# Altium footprint library XHCLB_22.11.30.PcbLib: 90 footprints (part 6 of 6)
Each footprint in its own frame and in the unit in brackets; x right, y up, seen from the top. Pads: shape width x height; smd on the part's side, far side on the other; paste and mask are expansions set on the pad; w line width, h text height; cw(c..) or ccw(c..) is an arc to the next point about the centre after c.
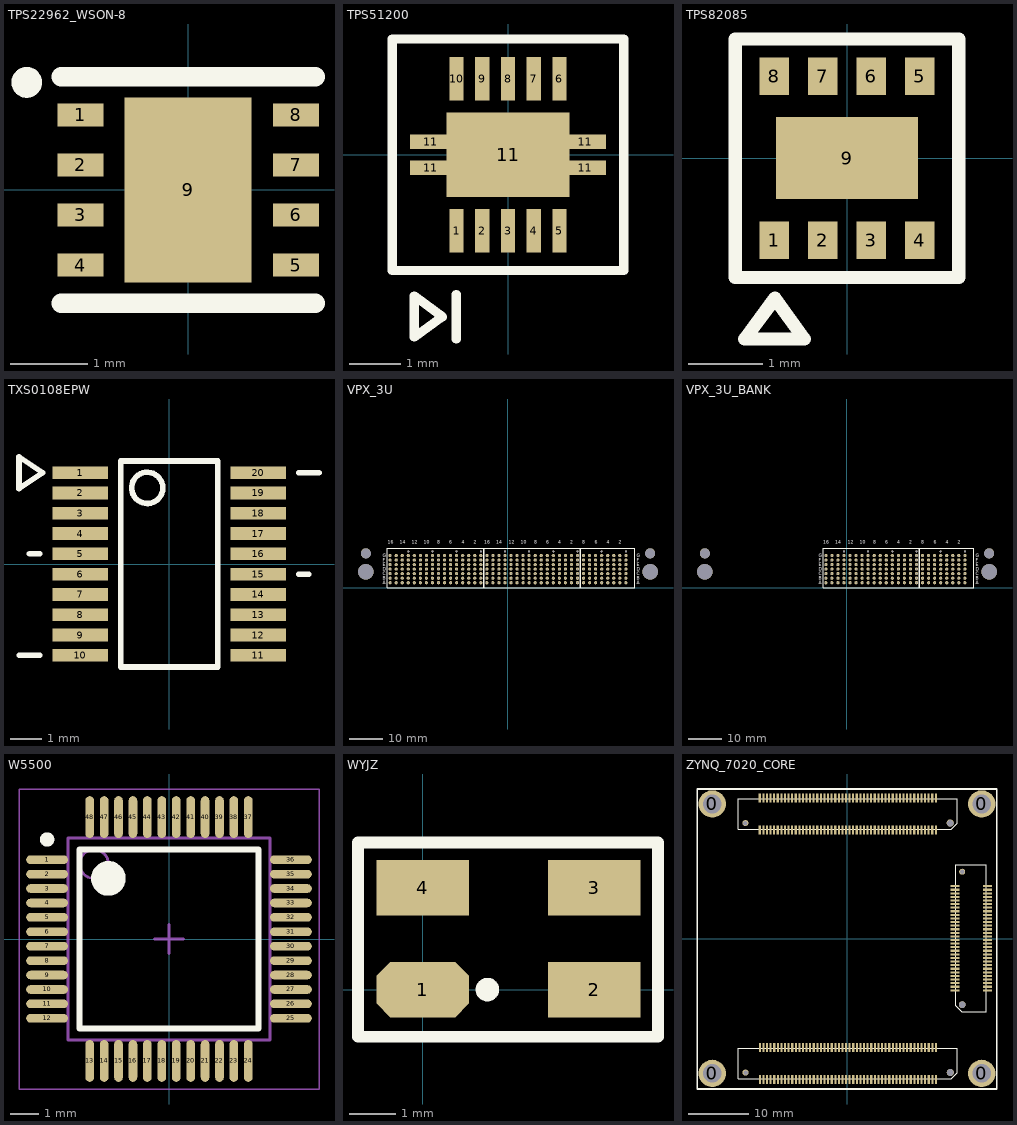
[diagram p5: the footprints below, top view; thin cyan lines are the x and y axes]

## TPS22962_WSON-8 [mm]
pads (9):
  rect 0.6x0.3 smd: 1(-1.4,0.975) 2(-1.4,0.325) 3(-1.4,-0.325) 4(-1.4,-0.975) 5(1.4,-0.975) 6(1.4,-0.325) 7(1.4,0.325) 8(1.4,0.975)
  rect 1.65x2.4 smd: 9(0,0)
Top Overlay:
  lines w0.2: -1.999,1.397 cw(c-2.099,1.398) -1.999,1.4
  lines w0.254: -1.651,-1.473 1.649,-1.473 ; -1.649,1.473 1.651,1.473

## TPS51200 [mm]
pads (15):
  rect 0.279x0.85 smd: 1(-1,-1.475) 2(-0.5,-1.475) 3(0,-1.475) 4(0.5,-1.475) 5(1,-1.475) 6(1,1.475) 7(0.5,1.475) 8(0,1.475) 9(-0.5,1.475) 10(-1,1.475)
  rect 0.8x0.28 smd: 11(-1.5,-0.25) 11(-1.5,0.25) 11(1.5,-0.25) 11(1.5,0.25)
  rect 2.4x1.65 smd: 11(0,0)
Top Overlay:
  lines w0.178: -1.007,-3.58 -1.007,-2.717 ; -2.25,-2.25 -2.25,2.25 2.25,2.25 2.25,-2.25 -2.25,-2.25 ; -1.821,-3.543 -1.821,-2.743 -1.275,-3.151 -1.821,-3.543

## TPS82085 [mm]
pads (9):
  rect 0.4x0.5 smd: 1(-0.975,-1.1) 2(-0.325,-1.1) 3(0.325,-1.1) 4(0.975,-1.1) 5(0.975,1.1) 6(0.325,1.1) 7(-0.325,1.1) 8(-0.975,1.1)
  rect 1.9x1.1 smd: 9(0,0)
Top Overlay:
  lines w0.178: -1.5,-1.6 -1.5,1.6 1.5,1.6 1.5,-1.6 -1.5,-1.6 ; -1.373,-2.426 -0.965,-1.88 -0.573,-2.426 -1.373,-2.426

## TXS0108EPW [mm]
pads (20):
  rect 1.778x0.406 smd: 1(-2.85,2.925) 2(-2.85,2.275) 3(-2.85,1.625) 4(-2.85,0.975) 5(-2.85,0.325) 6(-2.85,-0.325) 7(-2.85,-0.975) 8(-2.85,-1.625) 9(-2.85,-2.275) 10(-2.85,-2.925) 11(2.85,-2.925) 12(2.85,-2.275) 13(2.85,-1.625) 14(2.85,-0.975) 15(2.85,-0.325) 16(2.85,0.325) 17(2.85,0.975) 18(2.85,1.625) 19(2.85,2.275) 20(2.85,2.925)
Top Overlay:
  circle w0.178: c-0.703,2.438 r0.5
  lines w0.178: -4.8,-2.925 -4.15,-2.925 ; -4.475,0.325 -4.15,0.325 ; 4.15,-0.325 4.475,-0.325 ; 4.15,2.925 4.8,2.925 ; -4.812,2.417 -4.812,3.433 -4.05,2.925 -4.812,2.417 ; -1.55,-3.3 1.55,-3.3 1.55,3.3 -1.55,3.3 -1.55,-3.3

## VPX_3U [mm]
pads (294):
  round 0.95 hole 0.45: P0_A1(35.1,1.5) P0_A2(33.3,1.5) P0_A3(31.5,1.5) P0_A4(29.7,1.5) P0_A5(27.9,1.5) P0_A6(26.1,1.5) P0_A7(24.3,1.5) P0_A8(22.5,1.5) P0_B1(35.1,2.85) P0_B2(33.3,2.85) P0_B3(31.5,2.85) P0_B4(29.7,2.85) P0_B5(27.9,2.85) P0_B6(26.1,2.85) P0_B7(24.3,2.85) P0_B8(22.5,2.85) P0_C1(35.1,4.2) P0_C2(33.3,4.2) P0_C3(31.5,4.2) P0_C4(29.7,4.2) P0_C5(27.9,4.2) P0_C6(26.1,4.2) P0_C7(24.3,4.2) P0_C8(22.5,4.2) P0_D1(35.1,5.55) P0_D2(33.3,5.55) P0_D3(31.5,5.55) P0_D4(29.7,5.55) P0_D5(27.9,5.55) P0_D6(26.1,5.55) P0_D7(24.3,5.55) P0_D8(22.5,5.55) P0_E1(35.1,6.9) P0_E2(33.3,6.9) P0_E3(31.5,6.9) P0_E4(29.7,6.9) P0_E5(27.9,6.9) P0_E6(26.1,6.9) P0_E7(24.3,6.9) P0_E8(22.5,6.9) P0_F1(35.1,8.25) P0_F2(33.3,8.25) P0_F3(31.5,8.25) P0_F4(29.7,8.25) P0_F5(27.9,8.25) P0_F6(26.1,8.25) P0_F7(24.3,8.25) P0_F8(22.5,8.25) P0_G1(35.1,9.6) P0_G2(33.3,9.6) P0_G3(31.5,9.6) P0_G4(29.7,9.6) P0_G5(27.9,9.6) P0_G6(26.1,9.6) P0_G7(24.3,9.6) P0_G8(22.5,9.6) P1_A1(20.7,1.5) P1_A2(18.9,1.5) P1_A3(17.1,1.5) P1_A4(15.3,1.5) P1_A5(13.5,1.5) P1_A6(11.7,1.5) P1_A7(9.9,1.5) P1_A8(8.1,1.5) P1_A9(6.3,1.5) P1_A10(4.5,1.5) P1_A11(2.7,1.5) P1_A12(0.9,1.5) P1_A13(-0.9,1.5) P1_A14(-2.7,1.5) P1_A15(-4.5,1.5) P1_A16(-6.3,1.5) P1_B1(20.7,2.85) P1_B2(18.9,2.85) P1_B3(17.1,2.85) P1_B4(15.3,2.85) P1_B5(13.5,2.85) P1_B6(11.7,2.85) P1_B7(9.9,2.85) P1_B8(8.1,2.85) P1_B9(6.3,2.85) P1_B10(4.5,2.85) P1_B11(2.7,2.85) P1_B12(0.9,2.85) P1_B13(-0.9,2.85) P1_B14(-2.7,2.85) P1_B15(-4.5,2.85) P1_B16(-6.3,2.85) P1_C1(20.7,4.2) P1_C2(18.9,4.2) P1_C3(17.1,4.2) P1_C4(15.3,4.2) P1_C5(13.5,4.2) P1_C6(11.7,4.2) P1_C7(9.9,4.2) P1_C8(8.1,4.2) P1_C9(6.3,4.2) P1_C10(4.5,4.2) P1_C11(2.7,4.2) P1_C12(0.9,4.2) P1_C13(-0.9,4.2) P1_C14(-2.7,4.2) P1_C15(-4.5,4.2) P1_C16(-6.3,4.2) P1_D1(20.7,5.55) P1_D2(18.9,5.55) P1_D3(17.1,5.55) P1_D4(15.3,5.55) P1_D5(13.5,5.55) P1_D6(11.7,5.55) P1_D7(9.9,5.55) P1_D8(8.1,5.55) P1_D9(6.3,5.55) P1_D10(4.5,5.55) P1_D11(2.7,5.55) P1_D12(0.9,5.55) P1_D13(-0.9,5.55) P1_D14(-2.7,5.55) P1_D15(-4.5,5.55) P1_D16(-6.3,5.55) P1_E1(20.7,6.9) P1_E2(18.9,6.9) P1_E3(17.1,6.9) P1_E4(15.3,6.9) P1_E5(13.5,6.9) P1_E6(11.7,6.9) P1_E7(9.9,6.9) P1_E8(8.1,6.9) P1_E9(6.3,6.9) P1_E10(4.5,6.9) P1_E11(2.7,6.9) P1_E12(0.9,6.9) P1_E13(-0.9,6.9) P1_E14(-2.7,6.9) P1_E15(-4.5,6.9) P1_E16(-6.3,6.9) P1_F1(20.7,8.25) P1_F2(18.9,8.25) P1_F3(17.1,8.25) P1_F4(15.3,8.25) P1_F5(13.5,8.25) P1_F6(11.7,8.25) P1_F7(9.9,8.25) P1_F8(8.1,8.25) P1_F9(6.3,8.25) P1_F10(4.5,8.25) P1_F11(2.7,8.25) P1_F12(0.9,8.25) P1_F13(-0.9,8.25) P1_F14(-2.7,8.25) P1_F15(-4.5,8.25) P1_F16(-6.3,8.25) P1_G1(20.7,9.6) P1_G2(18.9,9.6) P1_G3(17.1,9.6) P1_G4(15.3,9.6) P1_G5(13.5,9.6) P1_G6(11.7,9.6) P1_G7(9.9,9.6) P1_G8(8.1,9.6) P1_G9(6.3,9.6) P1_G10(4.5,9.6) P1_G11(2.7,9.6) P1_G12(0.9,9.6) P1_G13(-0.9,9.6) P1_G14(-2.7,9.6) P1_G15(-4.5,9.6) P1_G16(-6.3,9.6) P2_A1(-8.1,1.5) P2_A2(-9.9,1.5) P2_A3(-11.7,1.5) P2_A4(-13.5,1.5) P2_A5(-15.3,1.5) P2_A6(-17.1,1.5) P2_A7(-18.9,1.5) P2_A8(-20.7,1.5) P2_A9(-22.5,1.5) P2_A10(-24.3,1.5) P2_A11(-26.1,1.5) P2_A12(-27.9,1.5) P2_A13(-29.7,1.5) P2_A14(-31.5,1.5) P2_A15(-33.3,1.5) P2_A16(-35.1,1.5) P2_B1(-8.1,2.85) P2_B2(-9.9,2.85) P2_B3(-11.7,2.85) P2_B4(-13.5,2.85) P2_B5(-15.3,2.85) P2_B6(-17.1,2.85) P2_B7(-18.9,2.85) P2_B8(-20.7,2.85) P2_B9(-22.5,2.85) P2_B10(-24.3,2.85) P2_B11(-26.1,2.85) P2_B12(-27.9,2.85) P2_B13(-29.7,2.85) P2_B14(-31.5,2.85) P2_B15(-33.3,2.85) P2_B16(-35.1,2.85) P2_C1(-8.1,4.2) P2_C2(-9.9,4.2) P2_C3(-11.7,4.2) P2_C4(-13.5,4.2) P2_C5(-15.3,4.2) P2_C6(-17.1,4.2) P2_C7(-18.9,4.2) P2_C8(-20.7,4.2) P2_C9(-22.5,4.2) P2_C10(-24.3,4.2) P2_C11(-26.1,4.2) P2_C12(-27.9,4.2) P2_C13(-29.7,4.2) P2_C14(-31.5,4.2) P2_C15(-33.3,4.2) P2_C16(-35.1,4.2) P2_D1(-8.1,5.55) P2_D2(-9.9,5.55) P2_D3(-11.7,5.55) P2_D4(-13.5,5.55) P2_D5(-15.3,5.55) P2_D6(-17.1,5.55) P2_D7(-18.9,5.55) P2_D8(-20.7,5.55) P2_D9(-22.5,5.55) P2_D10(-24.3,5.55) P2_D11(-26.1,5.55) P2_D12(-27.9,5.55) P2_D13(-29.7,5.55) P2_D14(-31.5,5.55) P2_D15(-33.3,5.55) P2_D16(-35.1,5.55) P2_E1(-8.1,6.9) P2_E2(-9.9,6.9) P2_E3(-11.7,6.9) P2_E4(-13.5,6.9) P2_E5(-15.3,6.9) P2_E6(-17.1,6.9) P2_E7(-18.9,6.9) P2_E8(-20.7,6.9) P2_E9(-22.5,6.9) P2_E10(-24.3,6.9) P2_E11(-26.1,6.9) P2_E12(-27.9,6.9) P2_E13(-29.7,6.9) P2_E14(-31.5,6.9) P2_E15(-33.3,6.9) P2_E16(-35.1,6.9) P2_F1(-8.1,8.25) P2_F2(-9.9,8.25) P2_F3(-11.7,8.25) P2_F4(-13.5,8.25) P2_F5(-15.3,8.25) P2_F6(-17.1,8.25) P2_F7(-18.9,8.25) P2_F8(-20.7,8.25) P2_F9(-22.5,8.25) P2_F10(-24.3,8.25) P2_F11(-26.1,8.25) P2_F12(-27.9,8.25) P2_F13(-29.7,8.25) P2_F14(-31.5,8.25) P2_F15(-33.3,8.25) P2_F16(-35.1,8.25) P2_G1(-8.1,9.6) P2_G2(-9.9,9.6) P2_G3(-11.7,9.6) P2_G4(-13.5,9.6) P2_G5(-15.3,9.6) P2_G6(-17.1,9.6) P2_G7(-18.9,9.6) P2_G8(-20.7,9.6) P2_G9(-22.5,9.6) P2_G10(-24.3,9.6) P2_G11(-26.1,9.6) P2_G12(-27.9,9.6) P2_G13(-29.7,9.6) P2_G14(-31.5,9.6) P2_G15(-33.3,9.6) P2_G16(-35.1,9.6)
  round 4.65 hole 4.65: ""(-42.35,4.75) ""(42.35,4.75)
  round 3 hole 3: ""(-42.35,10.25) ""(42.35,10.25)
  round 0.6 hole 0.6: ""(-29.7,10.85) ""(-22.5,10.85) ""(-15.3,10.85) ""(-8.1,10.85) ""(-0.9,10.85) ""(6.3,10.85) ""(13.5,10.85) ""(20.7,10.85) ""(27.9,10.85) ""(35.1,10.85)
Top Overlay:
  lines w0.254: -35.94,0 -7.26,0 -7.26,11.81 -35.94,11.81 -35.94,0 ; -7.14,0 21.54,0 21.54,11.81 -7.14,11.81 -7.14,0 ; 21.66,0 37.74,0 37.74,11.81 21.66,11.81 21.66,0
  text "6" at -17.433,13.15 h1
  text "8" at -21.033,13.15 h1
  text "4" at -13.833,13.15 h1
  text "2" at -10.233,13.15 h1
  text "10" at -25.05,13.15 h1
  text "12" at -28.65,13.15 h1
  text "16" at -35.85,13.15 h1
  text "14" at -32.25,13.15 h1
  text "6" at 11.367,13.15 h1
  text "8" at 7.767,13.15 h1
  text "4" at 14.967,13.15 h1
  text "2" at 18.567,13.15 h1
  text "10" at 3.75,13.15 h1
  text "12" at 0.15,13.15 h1
  text "16" at -7.05,13.15 h1
  text "14" at -3.45,13.15 h1
  text "2" at 32.967,13.15 h1
  text "4" at 29.367,13.15 h1
  text "8" at 22.167,13.15 h1
  text "6" at 25.767,13.15 h1
  text "B" at 38.367,2.35 h1
  text "A" at 38.367,1 h1
  text "G" at 38.367,9.1 h1
  text "C" at 38.367,3.7 h1
  text "D" at 38.367,5.05 h1
  text "E" at 38.367,6.4 h1
  text "F" at 38.367,7.75 h1
  text "B" at -37.233,2.35 h1
  text "A" at -37.233,1 h1
  text "G" at -37.233,9.1 h1
  text "C" at -37.233,3.7 h1
  text "D" at -37.233,5.05 h1
  text "E" at -37.233,6.4 h1
  text "F" at -37.233,7.75 h1
Bottom Overlay:
  text "16" at -34.35,13.15 h1
  text "14" at -30.75,13.15 h1
  text "12" at -27.15,13.15 h1
  text "10" at -23.55,13.15 h1
  text "6" at -16.767,13.15 h1
  text "8" at -20.367,13.15 h1
  text "4" at -13.167,13.15 h1
  text "2" at -9.567,13.15 h1
  text "16" at -5.55,13.15 h1
  text "14" at -1.95,13.15 h1
  text "12" at 1.65,13.15 h1
  text "10" at 5.25,13.15 h1
  text "6" at 12.033,13.15 h1
  text "8" at 8.433,13.15 h1
  text "4" at 15.633,13.15 h1
  text "2" at 19.233,13.15 h1
  text "B" at 39.033,2.35 h1
  text "A" at 39.033,1 h1
  text "G" at 39.033,9.1 h1
  text "C" at 39.033,3.7 h1
  text "D" at 39.033,5.05 h1
  text "E" at 39.033,6.4 h1
  text "F" at 39.033,7.75 h1
  text "2" at 33.633,13.15 h1
  text "4" at 30.033,13.15 h1
  text "8" at 22.833,13.15 h1
  text "6" at 26.433,13.15 h1
  text "B" at -36.567,2.35 h1
  text "A" at -36.567,1 h1
  text "G" at -36.567,9.1 h1
  text "C" at -36.567,3.7 h1
  text "D" at -36.567,5.05 h1
  text "E" at -36.567,6.4 h1
  text "F" at -36.567,7.75 h1

## VPX_3U_BANK [mm]
pads (178):
  round 0.95 hole 0.45: P0_A1(35.1,1.5) P0_A2(33.3,1.5) P0_A3(31.5,1.5) P0_A4(29.7,1.5) P0_A5(27.9,1.5) P0_A6(26.1,1.5) P0_A7(24.3,1.5) P0_A8(22.5,1.5) P0_B1(35.1,2.85) P0_B2(33.3,2.85) P0_B3(31.5,2.85) P0_B4(29.7,2.85) P0_B5(27.9,2.85) P0_B6(26.1,2.85) P0_B7(24.3,2.85) P0_B8(22.5,2.85) P0_C1(35.1,4.2) P0_C2(33.3,4.2) P0_C3(31.5,4.2) P0_C4(29.7,4.2) P0_C5(27.9,4.2) P0_C6(26.1,4.2) P0_C7(24.3,4.2) P0_C8(22.5,4.2) P0_D1(35.1,5.55) P0_D2(33.3,5.55) P0_D3(31.5,5.55) P0_D4(29.7,5.55) P0_D5(27.9,5.55) P0_D6(26.1,5.55) P0_D7(24.3,5.55) P0_D8(22.5,5.55) P0_E1(35.1,6.9) P0_E2(33.3,6.9) P0_E3(31.5,6.9) P0_E4(29.7,6.9) P0_E5(27.9,6.9) P0_E6(26.1,6.9) P0_E7(24.3,6.9) P0_E8(22.5,6.9) P0_F1(35.1,8.25) P0_F2(33.3,8.25) P0_F3(31.5,8.25) P0_F4(29.7,8.25) P0_F5(27.9,8.25) P0_F6(26.1,8.25) P0_F7(24.3,8.25) P0_F8(22.5,8.25) P0_G1(35.1,9.6) P0_G2(33.3,9.6) P0_G3(31.5,9.6) P0_G4(29.7,9.6) P0_G5(27.9,9.6) P0_G6(26.1,9.6) P0_G7(24.3,9.6) P0_G8(22.5,9.6) P1_A1(20.7,1.5) P1_A2(18.9,1.5) P1_A3(17.1,1.5) P1_A4(15.3,1.5) P1_A5(13.5,1.5) P1_A6(11.7,1.5) P1_A7(9.9,1.5) P1_A8(8.1,1.5) P1_A9(6.3,1.5) P1_A10(4.5,1.5) P1_A11(2.7,1.5) P1_A12(0.9,1.5) P1_A13(-0.9,1.5) P1_A14(-2.7,1.5) P1_A15(-4.5,1.5) P1_A16(-6.3,1.5) P1_B1(20.7,2.85) P1_B2(18.9,2.85) P1_B3(17.1,2.85) P1_B4(15.3,2.85) P1_B5(13.5,2.85) P1_B6(11.7,2.85) P1_B7(9.9,2.85) P1_B8(8.1,2.85) P1_B9(6.3,2.85) P1_B10(4.5,2.85) P1_B11(2.7,2.85) P1_B12(0.9,2.85) P1_B13(-0.9,2.85) P1_B14(-2.7,2.85) P1_B15(-4.5,2.85) P1_B16(-6.3,2.85) P1_C1(20.7,4.2) P1_C2(18.9,4.2) P1_C3(17.1,4.2) P1_C4(15.3,4.2) P1_C5(13.5,4.2) P1_C6(11.7,4.2) P1_C7(9.9,4.2) P1_C8(8.1,4.2) P1_C9(6.3,4.2) P1_C10(4.5,4.2) P1_C11(2.7,4.2) P1_C12(0.9,4.2) P1_C13(-0.9,4.2) P1_C14(-2.7,4.2) P1_C15(-4.5,4.2) P1_C16(-6.3,4.2) P1_D1(20.7,5.55) P1_D2(18.9,5.55) P1_D3(17.1,5.55) P1_D4(15.3,5.55) P1_D5(13.5,5.55) P1_D6(11.7,5.55) P1_D7(9.9,5.55) P1_D8(8.1,5.55) P1_D9(6.3,5.55) P1_D10(4.5,5.55) P1_D11(2.7,5.55) P1_D12(0.9,5.55) P1_D13(-0.9,5.55) P1_D14(-2.7,5.55) P1_D15(-4.5,5.55) P1_D16(-6.3,5.55) P1_E1(20.7,6.9) P1_E2(18.9,6.9) P1_E3(17.1,6.9) P1_E4(15.3,6.9) P1_E5(13.5,6.9) P1_E6(11.7,6.9) P1_E7(9.9,6.9) P1_E8(8.1,6.9) P1_E9(6.3,6.9) P1_E10(4.5,6.9) P1_E11(2.7,6.9) P1_E12(0.9,6.9) P1_E13(-0.9,6.9) P1_E14(-2.7,6.9) P1_E15(-4.5,6.9) P1_E16(-6.3,6.9) P1_F1(20.7,8.25) P1_F2(18.9,8.25) P1_F3(17.1,8.25) P1_F4(15.3,8.25) P1_F5(13.5,8.25) P1_F6(11.7,8.25) P1_F7(9.9,8.25) P1_F8(8.1,8.25) P1_F9(6.3,8.25) P1_F10(4.5,8.25) P1_F11(2.7,8.25) P1_F12(0.9,8.25) P1_F13(-0.9,8.25) P1_F14(-2.7,8.25) P1_F15(-4.5,8.25) P1_F16(-6.3,8.25) P1_G1(20.7,9.6) P1_G2(18.9,9.6) P1_G3(17.1,9.6) P1_G4(15.3,9.6) P1_G5(13.5,9.6) P1_G6(11.7,9.6) P1_G7(9.9,9.6) P1_G8(8.1,9.6) P1_G9(6.3,9.6) P1_G10(4.5,9.6) P1_G11(2.7,9.6) P1_G12(0.9,9.6) P1_G13(-0.9,9.6) P1_G14(-2.7,9.6) P1_G15(-4.5,9.6) P1_G16(-6.3,9.6)
  round 4.65 hole 4.65: ""(-42.35,4.75) ""(42.35,4.75)
  round 3 hole 3: ""(-42.35,10.25) ""(42.35,10.25)
  round 0.6 hole 0.6: ""(-0.9,10.85) ""(6.3,10.85) ""(13.5,10.85) ""(20.7,10.85) ""(27.9,10.85) ""(35.1,10.85)
Top Overlay:
  lines w0.254: -7.14,0 21.54,0 21.54,11.81 -7.14,11.81 -7.14,0 ; 21.66,0 37.74,0 37.74,11.81 21.66,11.81 21.66,0
  text "6" at 11.367,13.15 h1
  text "8" at 7.767,13.15 h1
  text "4" at 14.967,13.15 h1
  text "2" at 18.567,13.15 h1
  text "10" at 3.75,13.15 h1
  text "12" at 0.15,13.15 h1
  text "16" at -7.05,13.15 h1
  text "14" at -3.45,13.15 h1
  text "2" at 32.967,13.15 h1
  text "4" at 29.367,13.15 h1
  text "8" at 22.167,13.15 h1
  text "6" at 25.767,13.15 h1
  text "B" at 38.367,2.35 h1
  text "A" at 38.367,1 h1
  text "G" at 38.367,9.1 h1
  text "C" at 38.367,3.7 h1
  text "D" at 38.367,5.05 h1
  text "E" at 38.367,6.4 h1
  text "F" at 38.367,7.75 h1
  text "F" at -8.433,7.75 h1
  text "E" at -8.433,6.4 h1
  text "D" at -8.433,5.05 h1
  text "C" at -8.433,3.7 h1
  text "G" at -8.433,9.1 h1
  text "A" at -8.433,1 h1
  text "B" at -8.433,2.35 h1
Bottom Overlay:
  text "16" at -5.55,13.15 h1
  text "14" at -1.95,13.15 h1
  text "12" at 1.65,13.15 h1
  text "10" at 5.25,13.15 h1
  text "6" at 12.033,13.15 h1
  text "8" at 8.433,13.15 h1
  text "4" at 15.633,13.15 h1
  text "2" at 19.233,13.15 h1
  text "B" at 39.033,2.35 h1
  text "A" at 39.033,1 h1
  text "G" at 39.033,9.1 h1
  text "C" at 39.033,3.7 h1
  text "D" at 39.033,5.05 h1
  text "E" at 39.033,6.4 h1
  text "F" at 39.033,7.75 h1
  text "2" at 33.633,13.15 h1
  text "4" at 30.033,13.15 h1
  text "8" at 22.833,13.15 h1
  text "6" at 26.433,13.15 h1
  text "F" at -7.767,7.75 h1
  text "E" at -7.767,6.4 h1
  text "D" at -7.767,5.05 h1
  text "C" at -7.767,3.7 h1
  text "G" at -7.767,9.1 h1
  text "B" at -7.767,2.35 h1

## W5500 [mm] "TSQFP, 48-Leads, Body 7.00x7.00mm, Pitch 0.50mm, IPC Medium Density"
height 1.6
pads (48):
  oval 1.45x0.3 smd: 1(-4.225,2.75) 2(-4.225,2.25) 3(-4.225,1.75) 4(-4.225,1.25) 5(-4.225,0.75) 6(-4.225,0.25) 7(-4.225,-0.25) 8(-4.225,-0.75) 9(-4.225,-1.25) 10(-4.225,-1.75) 11(-4.225,-2.25) 12(-4.225,-2.75) 25(4.225,-2.75) 26(4.225,-2.25) 27(4.225,-1.75) 28(4.225,-1.25) 29(4.225,-0.75) 30(4.225,-0.25) 31(4.225,0.25) 32(4.225,0.75) 33(4.225,1.25) 34(4.225,1.75) 35(4.225,2.25) 36(4.225,2.75)
  oval 0.3x1.45 smd: 13(-2.75,-4.225) 14(-2.25,-4.225) 15(-1.75,-4.225) 16(-1.25,-4.225) 17(-0.75,-4.225) 18(-0.25,-4.225) 19(0.25,-4.225) 20(0.75,-4.225) 21(1.25,-4.225) 22(1.75,-4.225) 23(2.25,-4.225) 24(2.75,-4.225) 37(2.75,4.225) 38(2.25,4.225) 39(1.75,4.225) 40(1.25,4.225) 41(0.75,4.225) 42(0.25,4.225) 43(-0.25,4.225) 44(-0.75,4.225) 45(-1.25,4.225) 46(-1.75,4.225) 47(-2.25,4.225) 48(-2.75,4.225)
Top Overlay:
  circle w0.6: c-2.1,2.1 r0.3
  circle w0.25: c-4.225,3.45 r0.125
  lines w0.2: -3.1,-3.1 3.1,-3.1 3.1,3.1 -3.1,3.1 -3.1,-3.1
Mechanical 13:
  circle w0.1: c-2.6,2.6 r0.5
  lines w0.1: -3.5,-3.5 3.5,-3.5 3.5,3.5 -3.5,3.5 -3.5,-3.5
Mechanical 15:
  lines w0.05: -5.2,-5.2 5.2,-5.2 5.2,5.2 -5.2,5.2 -5.2,-5.2
  lines w0.1: -0.5,0 0.5,0 ; 0,-0.5 0,0.5
3D body: height 1.6, standoff 0.05, extent -3.5,-3.5 3.5,3.5

## WYJZ [mm]
pads (4):
  oct 2x1.2 smd: 1(0,0)
  rect 2x1.2 smd: 2(3.7,0) 3(3.7,2.2) 4(0,2.2)
Top Overlay:
  circle w0.254: c1.397,0 r0.127
  lines w0.254: -1.397,-1.016 -1.397,3.175 5.08,3.175 5.08,-1.016 -1.397,-1.016

## XTAL-3225 25M [mm]

## ZYNQ_7020_CORE [mm]
pads (270):
  round 4.57 hole 3.1: 0(-22.5,-22.5) 0(-22.5,22.5) 0(22.5,-22.5) 0(22.5,22.5)
  rect 0.35x1.5 smd: A1_1(14.834,18.114) A1_2(14.234,18.114) A1_3(13.634,18.114) A1_4(13.034,18.114) A1_5(12.434,18.114) A1_6(11.834,18.114) A1_7(11.234,18.114) A1_8(10.634,18.114) A1_9(10.034,18.114) A1_10(9.434,18.114) A1_11(8.834,18.114) A1_12(8.234,18.114) A1_13(7.634,18.114) A1_14(7.034,18.114) A1_15(6.434,18.114) A1_16(5.834,18.114) A1_17(5.234,18.114) A1_18(4.634,18.114) A1_19(4.034,18.114) A1_20(3.434,18.114) A1_21(2.834,18.114) A1_22(2.234,18.114) A1_23(1.634,18.114) A1_24(1.034,18.114) A1_25(0.434,18.114) A1_26(-0.166,18.114) A1_27(-0.766,18.114) A1_28(-1.366,18.114) A1_29(-1.966,18.114) A1_30(-2.566,18.114) A1_31(-3.166,18.114) A1_32(-3.766,18.114) A1_33(-4.366,18.114) A1_34(-4.966,18.114) A1_35(-5.566,18.114) A1_36(-6.166,18.114) A1_37(-6.766,18.114) A1_38(-7.366,18.114) A1_39(-7.966,18.114) A1_40(-8.566,18.114) A1_41(-9.166,18.114) A1_42(-9.766,18.114) A1_43(-10.366,18.114) A1_44(-10.966,18.114) A1_45(-11.566,18.114) A1_46(-12.166,18.114) A1_47(-12.766,18.114) A1_48(-13.366,18.114) A1_49(-13.966,18.114) A1_50(-14.566,18.114) A2_1(14.85,-23.552) A2_2(14.25,-23.552) A2_3(13.65,-23.552) A2_4(13.05,-23.552) A2_5(12.45,-23.552) A2_6(11.85,-23.552) A2_7(11.25,-23.552) A2_8(10.65,-23.552) A2_9(10.05,-23.552) A2_10(9.45,-23.552) A2_11(8.85,-23.552) A2_12(8.25,-23.552) A2_13(7.65,-23.552) A2_14(7.05,-23.552) A2_15(6.45,-23.552) A2_16(5.85,-23.552) A2_17(5.25,-23.552) A2_18(4.65,-23.552) A2_19(4.05,-23.552) A2_20(3.45,-23.552) A2_21(2.85,-23.552) A2_22(2.25,-23.552) A2_23(1.65,-23.552) A2_24(1.05,-23.552) A2_25(0.45,-23.552) A2_26(-0.15,-23.552) A2_27(-0.75,-23.552) A2_28(-1.35,-23.552) A2_29(-1.95,-23.552) A2_30(-2.55,-23.552) A2_31(-3.15,-23.552) A2_32(-3.75,-23.552) A2_33(-4.35,-23.552) A2_34(-4.95,-23.552) A2_35(-5.55,-23.552) A2_36(-6.15,-23.552) A2_37(-6.75,-23.552) A2_38(-7.35,-23.552) A2_39(-7.95,-23.552) A2_40(-8.55,-23.552) A2_41(-9.15,-23.552) A2_42(-9.75,-23.552) A2_43(-10.35,-23.552) A2_44(-10.95,-23.552) A2_45(-11.55,-23.552) A2_46(-12.15,-23.552) A2_47(-12.75,-23.552) A2_48(-13.35,-23.552) A2_49(-13.95,-23.552) A2_50(-14.55,-23.552) B1_1(14.834,23.514) B1_2(14.234,23.514) B1_3(13.634,23.514) B1_4(13.034,23.514) B1_5(12.434,23.514) B1_6(11.834,23.514) B1_7(11.234,23.514) B1_8(10.634,23.514) B1_9(10.034,23.514) B1_10(9.434,23.514) B1_11(8.834,23.514) B1_12(8.234,23.514) B1_13(7.634,23.514) B1_14(7.034,23.514) B1_15(6.434,23.514) B1_16(5.834,23.514) B1_17(5.234,23.514) B1_18(4.634,23.514) B1_19(4.034,23.514) B1_20(3.434,23.514) B1_21(2.834,23.514) B1_22(2.234,23.514) B1_23(1.634,23.514) B1_24(1.034,23.514) B1_25(0.434,23.514) B1_26(-0.166,23.514) B1_27(-0.766,23.514) B1_28(-1.366,23.514) B1_29(-1.966,23.514) B1_30(-2.566,23.514) B1_31(-3.166,23.514) B1_32(-3.766,23.514) B1_33(-4.366,23.514) B1_34(-4.966,23.514) B1_35(-5.566,23.514) B1_36(-6.166,23.514) B1_37(-6.766,23.514) B1_38(-7.366,23.514) B1_39(-7.966,23.514) B1_40(-8.566,23.514) B1_41(-9.166,23.514) B1_42(-9.766,23.514) B1_43(-10.366,23.514) B1_44(-10.966,23.514) B1_45(-11.566,23.514) B1_46(-12.166,23.514) B1_47(-12.766,23.514) B1_48(-13.366,23.514) B1_49(-13.966,23.514) B1_50(-14.566,23.514) B2_1(14.85,-18.152) B2_2(14.25,-18.152) B2_3(13.65,-18.152) B2_4(13.05,-18.152) B2_5(12.45,-18.152) B2_6(11.85,-18.152) B2_7(11.25,-18.152) B2_8(10.65,-18.152) B2_9(10.05,-18.152) B2_10(9.45,-18.152) B2_11(8.85,-18.152) B2_12(8.25,-18.152) B2_13(7.65,-18.152) B2_14(7.05,-18.152) B2_15(6.45,-18.152) B2_16(5.85,-18.152) B2_17(5.25,-18.152) B2_18(4.65,-18.152) B2_19(4.05,-18.152) B2_20(3.45,-18.152) B2_21(2.85,-18.152) B2_22(2.25,-18.152) B2_23(1.65,-18.152) B2_24(1.05,-18.152) B2_25(0.45,-18.152) B2_26(-0.15,-18.152) B2_27(-0.75,-18.152) B2_28(-1.35,-18.152) B2_29(-1.95,-18.152) B2_30(-2.55,-18.152) B2_31(-3.15,-18.152) B2_32(-3.75,-18.152) B2_33(-4.35,-18.152) B2_34(-4.95,-18.152) B2_35(-5.55,-18.152) B2_36(-6.15,-18.152) B2_37(-6.75,-18.152) B2_38(-7.35,-18.152) B2_39(-7.95,-18.152) B2_40(-8.55,-18.152) B2_41(-9.15,-18.152) B2_42(-9.75,-18.152) B2_43(-10.35,-18.152) B2_44(-10.95,-18.152) B2_45(-11.55,-18.152) B2_46(-12.15,-18.152) B2_47(-12.75,-18.152) B2_48(-13.35,-18.152) B2_49(-13.95,-18.152) B2_50(-14.55,-18.152)
  rect 1.5x0.35 smd: A3_1(18.038,-8.619) A3_2(18.038,-8.019) A3_3(18.038,-7.419) A3_4(18.038,-6.819) A3_5(18.038,-6.219) A3_6(18.038,-5.619) A3_7(18.038,-5.019) A3_8(18.038,-4.419) A3_9(18.038,-3.819) A3_10(18.038,-3.219) A3_11(18.038,-2.619) A3_12(18.038,-2.019) A3_13(18.038,-1.419) A3_14(18.038,-0.819) A3_15(18.038,-0.219) A3_16(18.038,0.381) A3_17(18.038,0.981) A3_18(18.038,1.581) A3_19(18.038,2.181) A3_20(18.038,2.781) A3_21(18.038,3.381) A3_22(18.038,3.981) A3_23(18.038,4.581) A3_24(18.038,5.181) A3_25(18.038,5.781) A3_26(18.038,6.381) A3_27(18.038,6.981) A3_28(18.038,7.581) A3_29(18.038,8.181) A3_30(18.038,8.781) B3_1(23.438,-8.619) B3_2(23.438,-8.019) B3_3(23.438,-7.419) B3_4(23.438,-6.819) B3_5(23.438,-6.219) B3_6(23.438,-5.619) B3_7(23.438,-5.019) B3_8(23.438,-4.419) B3_9(23.438,-3.819) B3_10(23.438,-3.219) B3_11(23.438,-2.619) B3_12(23.438,-2.019) B3_13(23.438,-1.419) B3_14(23.438,-0.819) B3_15(23.438,-0.219) B3_16(23.438,0.381) B3_17(23.438,0.981) B3_18(23.438,1.581) B3_19(23.438,2.181) B3_20(23.438,2.781) B3_21(23.438,3.381) B3_22(23.438,3.981) B3_23(23.438,4.581) B3_24(23.438,5.181) B3_25(23.438,5.781) B3_26(23.438,6.381) B3_27(23.438,6.981) B3_28(23.438,7.581) B3_29(23.438,8.181) B3_30(23.438,8.781)
  round 1.2 hole 1.1: C1(17.234,19.314) C1(17.25,-22.352)
  round 1.149 hole 1.1: C1(19.238,-11.019)
  round 1 hole 0.75: C2(-16.966,19.314) C2(-16.95,-22.352) C2(19.238,11.181)
Top Overlay:
  lines w0.1: -18.166,18.264 17.434,18.264 18.434,19.264 18.434,23.364 -18.166,23.364 -18.166,18.264 ; -18.15,-23.402 -18.15,-18.302 18.45,-18.302 18.45,-22.402 17.45,-23.402 -18.15,-23.402 ; 18.188,-11.219 19.188,-12.219 23.288,-12.219 23.288,12.381 18.188,12.381 18.188,-11.219
  lines w0.254: -25,-25.102 -25,25 25,25 25,-25.102 -25,-25.102